# EAGLE library part IC_ATMEGA328P (library parts)
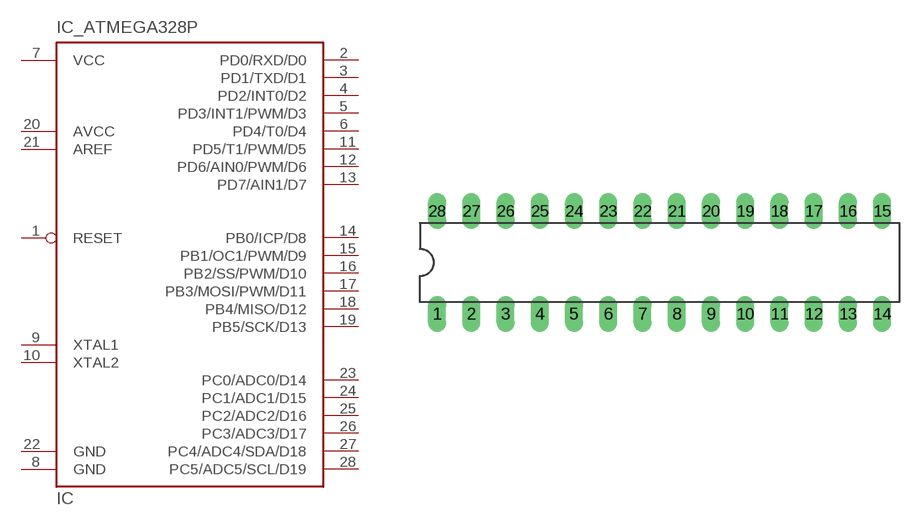
[diagram p2: symbol with the pads of CONN_DIL28; footprint CONN_DIL28]

Designator prefix IC

## IC_ATMEGA328P  [CONN_DIL28]
1  RESET
2  PD0/RXD/D0
3  PD1/TXD/D1
4  PD2/INT0/D2
5  PD3/INT1/PWM/D3
6  PD4/T0/D4
7  VCC  pwr
8  GND  pwr
9  XTAL1
10  XTAL2
11  PD5/T1/PWM/D5
12  PD6/AIN0/PWM/D6
13  PD7/AIN1/D7
14  PB0/ICP/D8
15  PB1/OC1/PWM/D9
16  PB2/SS/PWM/D10
17  PB3/MOSI/PWM/D11
18  PB4/MISO/D12
19  PB5/SCK/D13
20  AVCC  pwr
21  AREF  pas
22  GND  pwr
23  PC0/ADC0/D14
24  PC1/ADC1/D15
25  PC2/ADC2/D16
26  PC3/ADC3/D17
27  PC4/ADC4/SDA/D18
28  PC5/ADC5/SCL/D19

## Footprint CONN_DIL28 (pad centres in mm)
drill 0.813 long: 1 -16.51,-3.81; 2 -13.97,-3.81; 3 -11.43,-3.81; 4 -8.89,-3.81; 5 -6.35,-3.81; 6 -3.81,-3.81; 7 -1.27,-3.81; 8 1.27,-3.81; 9 3.81,-3.81; 10 6.35,-3.81; 11 8.89,-3.81; 12 11.43,-3.81; 13 13.97,-3.81; 14 16.51,-3.81; 15 16.51,3.81; 16 13.97,3.81; 17 11.43,3.81; 18 8.89,3.81; 19 6.35,3.81; 20 3.81,3.81; 21 1.27,3.81; 22 -1.27,3.81; 23 -3.81,3.81; 24 -6.35,3.81; 25 -8.89,3.81; 26 -11.43,3.81; 27 -13.97,3.81; 28 -16.51,3.81